# Altium footprint library componentes_especificos.PcbLib: 1 footprints
Each footprint in its own frame and in the unit in brackets; x right, y up, seen from the top. Pads: shape width x height; smd on the part's side, far side on the other; paste and mask are expansions set on the pad; w line width, h text height; cw(c..) or ccw(c..) is an arc to the next point about the centre after c.
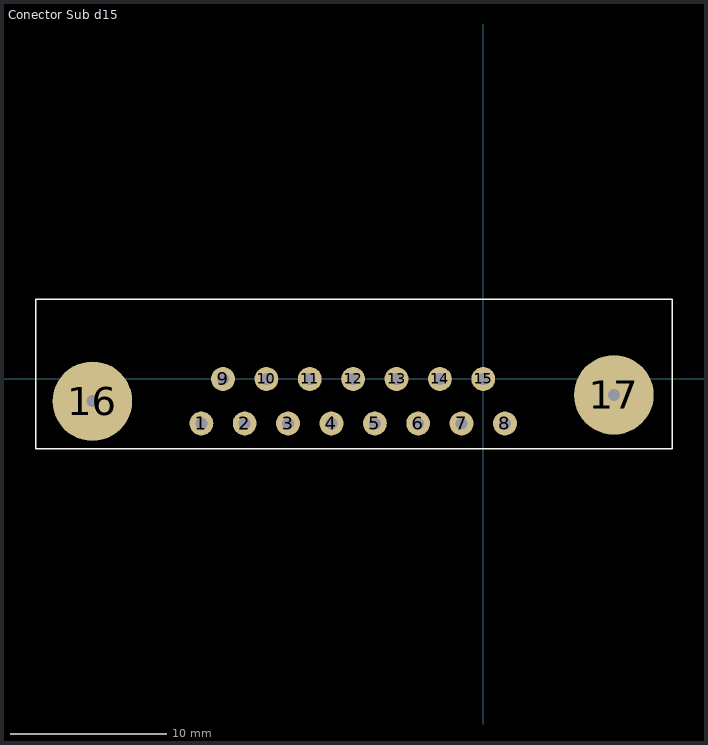
[diagram p0: the footprint, top view; thin cyan lines are the x and y axes]

## Conector Sub d15 [mil]
pads (17):
  round 60 hole 30: 1(-708.85,-111.81) 2(-599.8,-111.81) 3(-490.74,-111.81) 4(-381.69,-111.81) 5(-272.64,-111.81) 6(-163.58,-111.81) 7(-54.53,-111.81) 8(54.53,-111.81) 9(-654.32,0) 10(-545.27,0) 11(-436.22,0) 12(-327.16,0) 13(-218.11,0) 14(-109.05,0) 15(0,0)
  round 200 hole 30: 16(-982.67,-55.91) 17(328.35,-40)
Top Overlay:
  lines w3.94: -1125,-175 -1125,200 475,200 475,-175 -1125,-175